# EAGLE library part DIPSWITCH8 (library Custom_old)
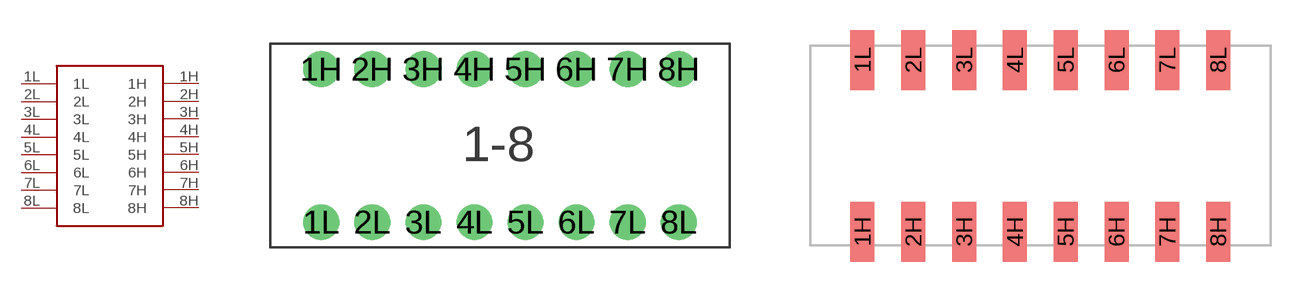
[diagram p18: symbol with the pads of DIPSWITCH8; footprints DIPSWITCH8, DIPSWITCH8_SMD]

Designator prefix -

## DIPSWITCH8TH  [DIPSWITCH8]
1H  1H
1L  1L
2H  2H
2L  2L
3H  3H
3L  3L
4H  4H
4L  4L
5H  5H
5L  5L
6H  6H
6L  6L
7H  7H
7L  7L
8H  8H
8L  8L

## DIPSWITCH8SMD  [DIPSWITCH8_SMD]
Pads as for DIPSWITCH8

## Footprint DIPSWITCH8 (pad centres in mm)
drill 0.8 pad 1.778: 1H 0,0; 1L 0,-7.62; 2H 2.54,0; 2L 2.54,-7.62; 3H 5.08,0; 3L 5.08,-7.62; 4H 7.62,0; 4L 7.62,-7.62; 5H 10.16,0; 5L 10.16,-7.62; 6H 12.7,0; 6L 12.7,-7.62; 7H 15.24,0; 7L 15.24,-7.62; 8H 17.78,0; 8L 17.78,-7.62

## Footprint DIPSWITCH8_SMD (pad centres in mm)
smd 1.2 x 3: 1H 0,0; 1L 0,8.6; 2H 2.54,0; 2L 2.54,8.6; 3H 5.08,0; 3L 5.08,8.6; 4H 7.62,0; 4L 7.62,8.6; 5H 10.16,0; 5L 10.16,8.6; 6H 12.7,0; 6L 12.7,8.6; 7H 15.24,0; 7L 15.24,8.6; 8H 17.78,0; 8L 17.78,8.6